# Altium footprint library Sensor.PcbLib: 3 footprints
Each footprint in its own frame and in the unit in brackets; x right, y up, seen from the top. Pads: shape width x height; smd on the part's side, far side on the other; paste and mask are expansions set on the pad; w line width, h text height; cw(c..) or ccw(c..) is an arc to the next point about the centre after c.
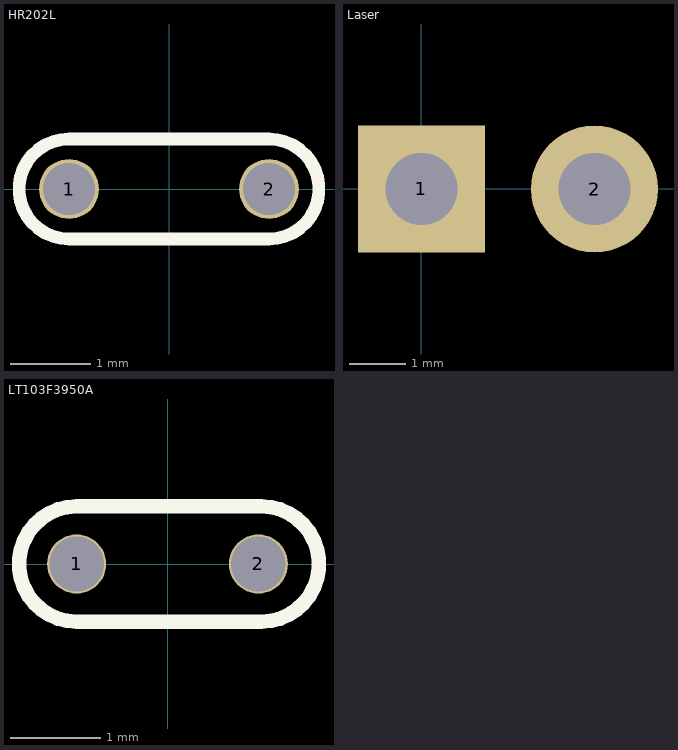
[diagram p0: the footprints below, top view; thin cyan lines are the x and y axes]

## HR202L [mm]
pads (2):
  round 0.75 hole 0.65: 1(-1.25,0) 2(1.25,0)
Top Overlay:
  lines w0.16: -1.25,-0.625 cw(c-1.25,0) -1.25,0.625 1.25,0.625 cw(c1.25,0) 1.25,-0.625 -1.25,-0.625
3D body: height 14, standoff 6, extent -2.5,-0.48 2.6,0.48
3D body: height 6, standoff 0, extent 0.951,-0.299 1.549,0.3
3D body: height 1.3, standoff 0, extent 0.951,-0.299 1.549,0.3
3D body: height 1.3, standoff 0, extent -1.549,-0.299 -0.951,0.3
3D body: height 6, standoff 0, extent -1.549,-0.299 -0.951,0.3

## Laser [mil]
pads (2):
  rect 88x88 hole 50: 1(0,0)
  round 88 hole 50: 2(120,0)

## LT103F3950A [mm]
pads (2):
  round 0.65 hole 0.6: 1(-1,0) 2(1,0)
Top Overlay:
  lines w0.16: -1,-0.635 cw(c-1,0) -1,0.635 1.032,0.635 cw(c1.032,0) 1.032,-0.635 -1,-0.635
3D body: height 5.5, standoff 1.5, extent -1.979,-1.991 2,1.992
3D body: height 3, standoff 0, extent 0.701,-0.299 1.299,0.3
3D body: height 1.3, standoff 0, extent 0.701,-0.299 1.299,0.299
3D body: height 1.3, standoff 0, extent -1.299,-0.299 -0.701,0.299
3D body: height 3, standoff 0, extent -1.299,-0.299 -0.701,0.299